# Altium integrated library 20021121-00006C4LF.IntLib: 1 symbol
Pins are listed as number, name and electrical type; pins without a type are passive.

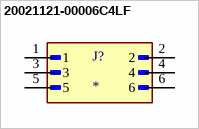
[diagram p0: symbol 20021121-00006C4LF]

## 20021121-00006C4LF
designator J?
FCI 20021121 Series,1.27mm Pitch 6 Way 2 Row Straight PCB Header,Solder Term,1A | Amphenol FCI (Amphenol CS) 20021121-00006C4LF; MF: Amphenol ICC; SnapEDA_Link: https://www.snapeda.com/parts/20021121-00006C4LF/Amphenol+FCI/view-part/?ref=snap; Package: None; Value: *; MP: 20021121-00006C4LF; Check_prices: https://www.snapeda.com/parts/20021121-00006C4LF/Amphenol+FCI/view-part/?ref=eda
footprint AMPHENOL_20021121-00006C4LF
pins: 1, 2, 3, 4, 5, 6